# Altium schematic symbol library PJ_GRA_F.SchLib: 23 symbols
Pins are listed as number, name and electrical type; pins without a type are passive.

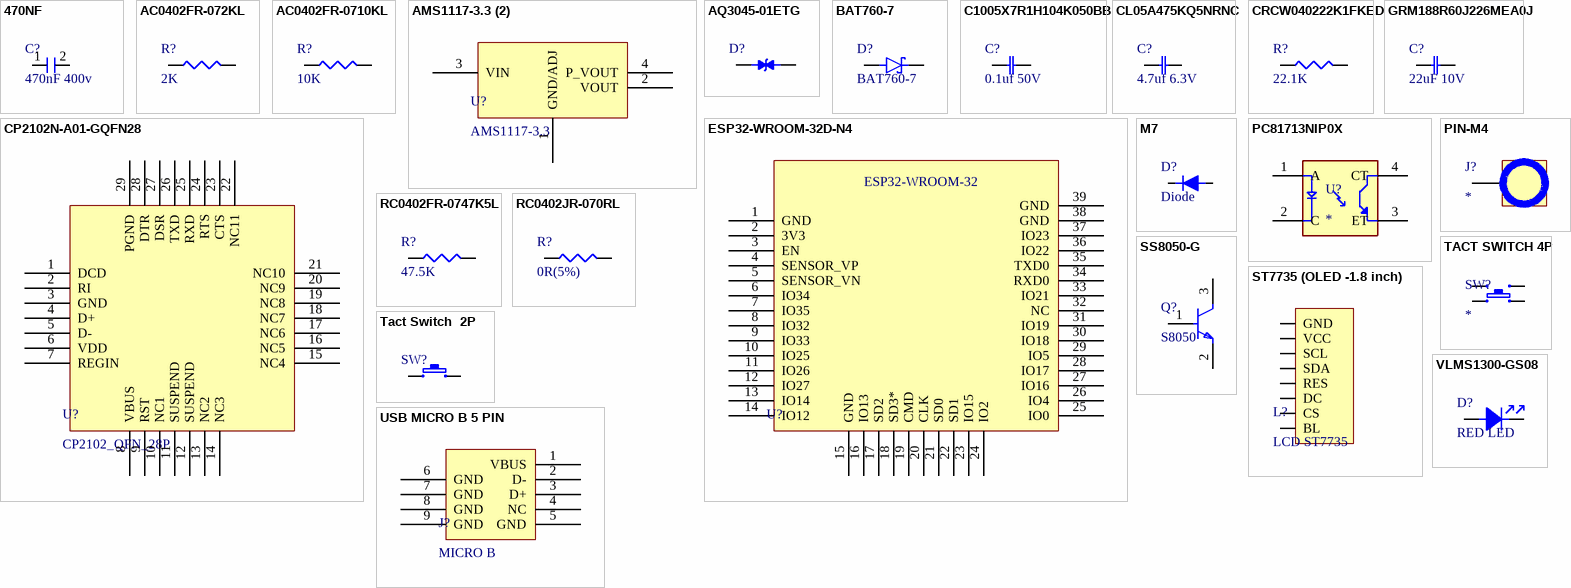
[diagram p0: symbols 470NF to VLMS1300-GS08]

## 470NF
designator C?, comment 470nF 400v
CAP 470nF 400V TH; MP: ECQE4474RJT; Price: None; Availability: Unavailable; Package: None; Value: *
footprint CAPRR750W80L1900T780H2200
pins: 1, 2

## AC0402FR-072KL
designator R?, comment 2K
RES SMD 2K OHM 1% 1/16W 0402; Manufacturer: Yageo; Manufacturer Part Number: AC0402FR-072KL; Power Rating: 62.5mW; Resistance: 2kR; Voltage Rating: 50V; Max Power Dissipation: 63mW; Temperature Coefficient: 100ppm/°C; Supplier 1: Avnet; RoHS: Yes; Category: Chip SMD Resistors; Stock 1: 10000; Pricing 1: 10000=0.00115 (USD); Case/Package: 0402; Case Code (Imperial): 0402; Case Code (Metric): 1005; Weight: 2.3E-05oz; Size Code: 0402; Min Operating Temperature: -55°C; Max Operating Temperature: 155°C; Tolerance: 1%; Packaging: Tape and Reel; Number of Terminations: 2; Termination: SMD/SMT; Features: Moisture Resistant,Automotive AEC-Q200; Series: AC; Length: 0.039inch; Width: 0.5mm; Height: 0.015inch; Lead Free: Lead Free; RoHS Compliant: Yes; ComponentLink1URL: https://datasheet.ciiva.com/12576/pyu-ac-51-rohs-l-2-12576349.pdf?src-supplier=Mouser; ComponentLink1Description: https://datasheet.ciiva.com/12576/pyu-ac-51-rohs-l-2-12576349.pdf?src-supplier=Mouser; LCSC part number: C144770
footprint FP-AC0402-IPC_A
pins: 1, 2

## AC0402FR-0710KL
designator R?, comment 10K
RES SMD 10K OHM 1% 1/16W 0402; Manufacturer: Yageo; Manufacturer Part Number: AC0402FR-0710KL; Resistance: 10kR; Power Rating: 62.5mW; Voltage Rating: 50V; Temperature Coefficient: 100ppm/°C; Max Power Dissipation: 63mW; Supplier 1: Digikey; RoHS: Yes; Category: Chip SMD Resistors; Stock 1: 1860000; Pricing 1: 10000=0.00343, 20000=0.00304, 30000=0.00284, 50000=0.00263, 100000=0.00237 (USD); Case/Package: 0402; Case Code (Imperial): 0402; Case Code (Metric): 1005; Size Code: 0402; Min Operating Temperature: -55°C; Max Operating Temperature: 155°C; Tolerance: 1%; Packaging: Tape and Reel; Termination: SMD/SMT; Number of Terminations: 2; Features: Moisture Resistant,Automotive AEC-Q200; Series: AC; Length: 0.039inch; Width: 0.02inch; Height: 0.015inch; Lead Free: Lead Free; RoHS Compliant: Yes; ComponentLink1URL: https://datasheet.ciiva.com/12656/pyu-ac-51-rohs-l-2-12656634.pdf?src-supplier=Mouser; ComponentLink1Description: https://datasheet.ciiva.com/12656/pyu-ac-51-rohs-l-2-12656634.pdf?src-supplier=Mouser; LCSC part number: C144807
footprint FP-AC0402-IPC_A
pins: 1, 2

## AMS1117-3.3 (2)
designator U?, comment AMS1117-3.3
IC Ldo Reg 3.3V 1A SOT223; Manufacturer: Revvo; Supplier 1: Digikey; Manufacturer Part Number: AMS1117-3.3; RoHS: No; Pricing 1: 1=0.43, 10=0.349, 25=0.3196, 100=0.2379, 250=0.2156, 500=0.17844, 1000=0.13382 (USD); LCSC part number: C347222
footprint FP-AMS1117-IPC_A
pins: 1 GND/ADJ, 2 VOUT, 3 VIN, 4 P_VOUT

## AQ3045-01ETG
designator D?, comment DIODE  (value not drawn)
TVS DIODE 5.3VWM 12VC SOD882; Manufacturer: Littelfuse; Manufacturer Part Number: AQ3045-01ETG; Number of Bidirectional Channels: 1; Reverse Standoff Voltage: 5.3V; Min Breakdown Voltage: 6.8V; Peak Pulse Current: 3A; Peak Pulse Power: 40W; Power Line Protection: No; Diode Type: ZENER; Leakage Current: 100nA; Number of Channels: 1NUMBER; Supplier 1: Digikey; RoHS: Yes; Category: TVS Diodes; Stock 1: 15483; Pricing 1: 1=0.5, 10=0.391, 100=0.2344, 500=0.217, 1000=0.14756, 2000=0.13585, 5000=0.1302 (USD); Mount: Surface Mount; Min Operating Temperature: -55°C; Max Operating Temperature: 150°C; Packaging: Cut Tape; Series: Automotive, AEC-Q101, AQ3045, SPA®; Operating Supply Voltage: 5.3V; RoHS Compliant: Yes; ComponentLink1URL: https://www.littelfuse.com/~/media/electronics/datasheets/tvs_diode_arrays/littelfuse_tvs_diode_array_aq3045_datasheet.pdf.pdf?src-supplier=Digikey; ComponentLink1Description: https://www.littelfuse.com/~/media/electronics/datasheets/tvs_diode_arrays/littelfuse_tvs_diode_array_aq3045_datasheet.pdf.pdf?src-supplier=Digikey; ComponentLink2URL: http://www.littelfuse.com/~/media/electronics/datasheets/tvs_diode_arrays/littelfuse_tvs_diode_array_aq3045_datasheet.pdf.pdf?src-supplier=Digikey; ComponentLink2Description: http://www.littelfuse.com/~/media/electronics/datasheets/tvs_diode_arrays/littelfuse_tvs_diode_array_aq3045_datasheet.pdf.pdf?src-supplier=Digikey; LCSC part number: C3710326
footprint TVS_LESD5D5.0CT1G
pins: 1, 2

## BAT760-7
designator D?
Schottky Diode,Vrrm=30V, Vr=21V, I=1A, IFSM=5.5A; Manufacturer: Diodes; Supplier 1: Avnet; Manufacturer Part Number: BAT760-7; RoHS: Yes; Category: Rectifier Diodes; Stock 1: 36000; Pricing 1: 3000=0.05096 (USD); ComponentLink1URL: https://datasheet.ciiva.com/8301/ds30498-8301400.pdf?src-supplier=Avnet; ComponentLink1Description: https://datasheet.ciiva.com/8301/ds30498-8301400.pdf?src-supplier=Avnet; ComponentLink2URL: https://datasheet.ciiva.com/4715/ds30498-63155-4715521.pdf?src-supplier=Mouser; ComponentLink2Description: https://datasheet.ciiva.com/4715/ds30498-63155-4715521.pdf?src-supplier=Mouser; ComponentLink3URL: https://datasheet.ciiva.com/1178/ds30498-1178033.pdf?src-supplier=Element14; ComponentLink3Description: https://datasheet.ciiva.com/1178/ds30498-1178033.pdf?src-supplier=Element14; ComponentLink4URL: https://datasheet.ciiva.com/22695/1670989-22695799.pdf?src-supplier=Element14; ComponentLink4Description: https://datasheet.ciiva.com/22695/1670989-22695799.pdf?src-supplier=Element14; ComponentLink5URL: https://datasheet.ciiva.com/914/ds30498-914551.pdf?src-supplier=Digikey; ComponentLink5Description: https://datasheet.ciiva.com/914/ds30498-914551.pdf?src-supplier=Digikey; ComponentLink6URL: https://datasheet.ciiva.com/914/ds30498-914552.pdf?src-supplier=Digikey; ComponentLink6Description: https://datasheet.ciiva.com/914/ds30498-914552.pdf?src-supplier=Digikey; ComponentLink7URL: https://datasheet.ciiva.com/914/ds30498-914553.pdf?src-supplier=Digikey; ComponentLink7Description: https://datasheet.ciiva.com/914/ds30498-914553.pdf?src-supplier=Digikey; LCSC part number: C124187
footprint SOD2513X120N
pins: A, C K

## C1005X7R1H104K050BB
designator C?, comment 0.1uf 50V
CAP CER 0.1UF 50V X7R 0402; Manufacturer: TDK; Manufacturer Part Number: C1005X7R1H104K050BB; Material: 4241ConductorMaterial; Capacitance: 100nF; Tolerance: 10%; Supplier 1: Digikey; RoHS: Yes; Category: Ceramic Capacitors; Stock 1: 4299684; Pricing 1: 1=0.1, 10=0.053, 50=0.0302, 100=0.0235, 500=0.01766, 1000=0.01388, 2500=0.01262, 5000=0.01161 (USD); Mount: Surface Mount; Case/Package: 0402; Number of Pins: 2NUMBER; Case Code (Imperial): 0402; Case Code (Metric): 1005; Min Operating Temperature: -55°C; Max Operating Temperature: 125°C; Package Quantity: 1; Voltage Rating: 50V; Packaging: Tape and Reel; Dielectric: X7R; Voltage: 50V; Series: C; Construction: Flat; Length: 1mm; Width: 0.02inch; Height: 0.5mm; Thickness: 0.022inch; Depth: 0.5mm; Radiation Hardening: No; RoHS Compliant: Yes; Reach SVHC Compliant: Unknown; Lead Free: 5697LeadFree; ComponentLink1URL: https://datasheet.ciiva.com/26285/2983c1005x7r1h104k050bb-26285417.pdf?src-supplier=Onlinecomponents.com; ComponentLink1Description: https://datasheet.ciiva.com/26285/2983c1005x7r1h104k050bb-26285417.pdf?src-supplier=Onlinecomponents.com; ComponentLink2URL: https://datasheet.ciiva.com/16427/c1005x7r1h104k050bb-16427685.pdf?src-supplier=Future+Electronics; ComponentLink2Description: https://datasheet.ciiva.com/16427/c1005x7r1h104k050bb-16427685.pdf?src-supplier=Future+Electronics; ComponentLink3URL: https://datasheet.ciiva.com/22725/1913358-22725482.pdf?src-supplier=Element14; ComponentLink3Description: https://datasheet.ciiva.com/22725/1913358-22725482.pdf?src-supplier=Element14; ComponentLink4URL: https://datasheet.ciiva.com/22725/1913358-22725480.pdf?src-supplier=Element14; ComponentLink4Description: https://datasheet.ciiva.com/22725/1913358-22725480.pdf?src-supplier=Element14; ComponentLink5URL: https://datasheet.ciiva.com/6292/tdkmlcccaprange-6292410.pdf?src-supplier=Digikey; ComponentLink5Description: https://datasheet.ciiva.com/6292/tdkmlcccaprange-6292410.pdf?src-supplier=Digikey; LCSC part number: C2181015
footprint FP-C1005-050-0_05-IPC_A (CAP 0402)
pins: 1, 2

## CL05A475KQ5NRNC
designator C?, comment 4.7uf 6.3V
CAP CER 4.7UF 6.3V X5R 0402; Manufacturer: Samsung; Manufacturer Part Number: CL05A475KQ5NRNC; Material: 4241ConductorMaterial; Tolerance: 10%; Supplier 1: Avnet; RoHS: Yes; Category: Ceramic Capacitors; Stock 1: 2440000; Pricing 1: 10000=0.00979 (USD); Mount: Surface Mount; Case/Package: 0402; Case Code (Metric): 1005; Case Code (Imperial): 0402; Min Operating Temperature: -55°C; Max Operating Temperature: 85°C; Package Quantity: 1; Packaging: Tape and Reel; Capacitance: 4.7uF; Voltage Rating: 6.3V; Dielectric: X5R; Series: CL; Construction: Flat; Length: 1mm; Width: 0.02inch; Height: 0.5mm; Thickness: 0.022inch; Depth: 0.5mm; Radiation Hardening: No; Lead Free: Lead Free; RoHS Compliant: Yes; ComponentLink1URL: https://datasheet.ciiva.com/25793/cl05a475kq5nrnc-25793634.pdf?src-supplier=Digikey; ComponentLink1Description: https://datasheet.ciiva.com/25793/cl05a475kq5nrnc-25793634.pdf?src-supplier=Digikey; ComponentLink2URL: https://datasheet.ciiva.com/26838/getdatasheetpartid-353228-26838196.pdf?src-supplier=Verical; ComponentLink2Description: https://datasheet.ciiva.com/26838/getdatasheetpartid-353228-26838196.pdf?src-supplier=Verical; LCSC part number: C2932473
footprint FP-C1005-050-0_05-IPC_A (CAP 0402)
pins: 1, 2

## CP2102N-A01-GQFN28
designator U?, comment CP2102_QFN_28P
USB-to-UART,USB2.0 full speed, data rate up to 3M baud; LCSC part number: C105167
footprint FP-CP2102N-A01-GQFN28-IPC_A - duplicate
pins: 1 DCD, 2 RI, 3 GND, 4 D+, 5 D-, 6 VDD, 7 REGIN, 8 VBUS, 9 RST, 10 NC1, 11 SUSPEND, 12 SUSPEND, 13 NC2, 14 NC3, 15 NC4, 16 NC5, 17 NC6, 18 NC7, 19 NC8, 20 NC9, 21 NC10, 22 NC11, 23 CTS, 24 RTS, 25 RXD, 26 TXD, 27 DSR, 28 DTR, 29 PGND

## CRCW040222K1FKED
designator R?, comment 22.1K
RES 22.1K OHM 1% 1/16W 0402; Manufacturer: Vishay; Manufacturer Part Number: CRCW040222K1FKED; Resistance: 22.1kR; Temperature Coefficient: 100ppm/°C; Max Power Dissipation: 63mW; Voltage Rating: 50V; Supplier 1: Avnet; RoHS: Yes; Category: Chip SMD Resistors; Stock 1: 290000; Pricing 1: 10000=0.00278, 20000=0.00269, 40000=0.0026, 60000=0.00251, 80000=0.00241, 100000=0.0023, 1000000=0.00219 (USD); Case/Package: 0402; Number of Pins: 2; Case Code (Imperial): 0402; Case Code (Metric): 1005; Weight: 2.3E-05oz; Contact Plating: Tin; Min Operating Temperature: -55°C; Max Operating Temperature: 155°C; Tolerance: 1%; Packaging: Tape and Reel; Number of Terminations: 2; Series: CRCW; Power Rating: 63mW; Package Quantity: 10000; Resistor Type: Thick Film; Termination: SMD/SMT; Voltage Rating (DC): 50V; Working Voltage: 50V; Features: Automotive AEC-Q200; Resistance Tolerance: 1%; Construction: Rectangular; Technology: THICK FILM; Length: 1mm; Width: 0.5mm; Height: 0.35mm; Depth: 0.5mm; Ratings: AEC-Q200; Lead Free: Lead Free; RoHS Compliant: Yes; Military Standard: Not; Reach SVHC Compliant: Unknown; ComponentLink1URL: https://datasheet.ciiva.com/11810/0900766b80d98824-11810184.pdf?src-supplier=Rs; ComponentLink1Description: https://datasheet.ciiva.com/11810/0900766b80d98824-11810184.pdf?src-supplier=Rs; ComponentLink2URL: https://datasheet.ciiva.com/7673/1697337-7673245.pdf?src-supplier=Element14; ComponentLink2Description: https://datasheet.ciiva.com/7673/1697337-7673245.pdf?src-supplier=Element14; ComponentLink3URL: https://datasheet.ciiva.com/7673/1697337-7673445.pdf?src-supplier=Element14; ComponentLink3Description: https://datasheet.ciiva.com/7673/1697337-7673445.pdf?src-supplier=Element14; ComponentLink4URL: https://datasheet.ciiva.com/3256/dcrcwe3-3256246.pdf?src-supplier=Avnet; ComponentLink4Description: https://datasheet.ciiva.com/3256/dcrcwe3-3256246.pdf?src-supplier=Avnet; ComponentLink5URL: https://datasheet.ciiva.com/3256/dcrcwe3-3256247.pdf?src-supplier=Avnet; ComponentLink5Description: https://datasheet.ciiva.com/3256/dcrcwe3-3256247.pdf?src-supplier=Avnet; ComponentLink6URL: https://datasheet.ciiva.com/22871/70201119-22871080.pdf?src-supplier=Allied+Electronics; ComponentLink6Description: https://datasheet.ciiva.com/22871/70201119-22871080.pdf?src-supplier=Allied+Electronics; ComponentLink7URL: https://datasheet.ciiva.com/16208/dcrcwe3-16208744.pdf?src-supplier=Future+Electronics; ComponentLink7Description: https://datasheet.ciiva.com/16208/dcrcwe3-16208744.pdf?src-supplier=Future+Electronics; ComponentLink8URL: https://datasheet.ciiva.com/16771/70201119-16771838.pdf?src-supplier=Allied+Electronics; ComponentLink8Description: https://datasheet.ciiva.com/16771/70201119-16771838.pdf?src-supplier=Allied+Electronics; LCSC part number: C3957064
footprint FP-AC0402-IPC_A
pins: 1, 2

## ESP32-WROOM-32D-N4
designator U?  (value not drawn)
Wi-Fi/BT BLE Module ESP32-D0WD, SPI Flash, UART, PCB antenna; Manufacturer: Espressif Systems; Supplier 1: Digikey; Manufacturer Part Number: ESP32-WROOM-32D-N4; RoHS: No; Category: LDO; Pricing 1: 6500=3.8 (USD); ComponentLink1URL: https://datasheet.octopart.com/ESP32-WROOM-32D-N4-Espressif-Systems-datasheet-125773146.pdf?src-supplier=TME; ComponentLink1Description: https://datasheet.octopart.com/ESP32-WROOM-32D-N4-Espressif-Systems-datasheet-125773146.pdf?src-supplier=TME; ComponentLink2URL: https://datasheet.octopart.com/ESP32-WROOM-32D-N4-Espressif-Systems-datasheet-152560788.pdf?src-supplier=SOS+electronic; ComponentLink2Description: https://datasheet.octopart.com/ESP32-WROOM-32D-N4-Espressif-Systems-datasheet-152560788.pdf?src-supplier=SOS+electronic; LCSC part number: C473012; Supplier Part Number 1: 1965-ESP32-WROOM-32D-N4TR-ND
footprint FP-ESP32-WROOM-32D_M113DH-0
pins: 1 GND "Ground", 2 3V3 "Power supply", 3 EN "Module-enable signal. Active high.", 4 SENSOR_VP "GPIO36, ADC1_CH0, RTC_GPIO0", 5 SENSOR_VN "GPIO39, ADC1_CH3, RTC_GPIO3", 6 IO34 "GPIO34, ADC1_CH6, RTC_GPIO4", 7 IO35 "GPIO35, ADC1_CH7, RTC_GPIO5", 8 IO32 "GPIO32, XTAL_32K_P, ADC1_CH4, TOUCH9, RTC_GPIO9", 9 IO33 "GPIO33, XTAL_32K_N, ADC1_CH5, TOUCH8, RTC_GPIO8", 10 IO25 "GPIO25, DAC_1, ADC2_CH8, RTC_GPIO6, EMAC_RXD0", 11 IO26 "GPIO26, DAC_2, ADC2_CH9, RTC_GPIO7, EMAC_RXD1", 12 IO27 "GPIO27, ADC2_CH7, TOUCH7, RTC_GPIO17, EMAC_RX_DV", 13 IO14 "GPIO14, ADC2_CH6, TOUCH6, RTC_GPIO16, MTMS, HSPI_CLK, HS2_CLK, SD_CLK, EMAC_TXD2", 14 IO12 "GPIO12, ADC2_CH5, TOUCH5, RTC_GPIO15, MTDI, HSPIQ, HS2_DATA2, SD_DATA2, EMAC_TXD3", 15 GND "Ground", 16 IO13 "GPIO13, ADC2_CH4, TOUCH4, RTC_GPIO14, MTCK, HSPI_D, HS2_DATA3, SD_DATA3, EMAC_RX_ER", 17 SD2 "GPIO9, SD_DATA2, SPIHD, HS1_DATA2, U1RXD", 18 SD3* "GPIO10, SD_DATA3, SPIWP, HS1_DATA3, U1TXD", 19 CMD "GPIO11, SD_CMD, SPICS0, HS1_CMD, U1RTS", 20 CLK "GPIO6, SD_CLK, SPICLK, HS1_CLK, U1CTS", 21 SD0 "GPIO7, SD_DATA0, SPIQ, HS1_DATA0, U2RTS", 22 SD1 "GPIO8, SD_DATA1, SPID, HS1_DATA1, U2CTS", 23 IO15 "GPIO15, ADC2_CH3, TOUCH3, MTDO, HSPICS0, RTC_GPIO13, HS2_CMD, SD_CMD, EMAC_RXD3", 24 IO2 "GPIO2, ADC2_CH2, TOUCH2, RTC_GPIO12, HSPIW, HS2_DATA0, SD_DATA0", 25 IO0 "GPIO0, ADC2_CH1, TOUCH1, RTC_GPIO11, CLK_OUT1, EMAC_TX_CLK", 26 IO4 "GPIO4, ADC2_CH0, TOUCH0, RTC_GPIO10, HSPID, HS2_DATA1, SD_DATA1, EMAC_TX_ER", 27 IO16 "GPIO16, HS1_DATA4, U2RXD, EMAC_CLK_OUT", 28 IO17 "GPIO17, HS1_DATA5, U2TXD, EMAC_CLK_OUT_180", 29 IO5 "GPIO5, VSPIQ, HS1_DATA6, EMAC_RX_CLK", 30 IO18 "GPIO18, VSPI_CLK, HS1_DATA7", 31 IO19 "GPIO19, VSPIQ, U0CTS, EMAC_TXD0", 32 NC "-", 33 IO21 "GPIO21, VSPIHD, EMAC_TX_EN", 34 RXD0 "GPIO3, U0RXD, CLK_OUT2", 35 TXD0 "GPIO1, U0TXD, CLK_OUT3, EMAC_RXD2", 36 IO22 "GPIO22, VSPIWP, U0RTS, EMAC_TXD1", 37 IO23 "GPIO23, VSPI_D, HS1_STROBE", 38 GND "Ground", 39 GND "Ground"
text: ESP32-WROOM-32

## GRM188R60J226MEA0J
designator C?, comment 22uF 10V
CAP CER 22UF 6.3V X5R 0603; Manufacturer: Murata; Manufacturer Part Number: GRM188R60J226MEA0J; Material: Ceramic; Tolerance: 20%; Supplier 1: Digikey; RoHS: Yes; Category: Ceramic Capacitors; Stock 1: 990000; Pricing 1: 10000=0.0366, 20000=0.03467, 30000=0.03274, 50000=0.03082, 100000=0.026, 250000=0.02408 (USD); Mount: Surface Mount; Case/Package: 0603; Case Code (Metric): 1608; Case Code (Imperial): 0603; Weight: 0.000222oz; Min Operating Temperature: -55°C; Max Operating Temperature: 85°C; Package Quantity: 10000; Packaging: Tape and Reel; Capacitance: 22uF; Voltage Rating: 6.3V; Dielectric: X5R; Termination: SMD/SMT; Voltage Rating (DC): 6.3V; Series: GRM; Height: 1mm; Lead Free: Lead Free; RoHS Compliant: Yes; ComponentLink1URL: https://datasheet.ciiva.com/29541/partnumbering-e-01-29541598.pdf?src-supplier=Digikey; ComponentLink1Description: https://datasheet.ciiva.com/29541/partnumbering-e-01-29541598.pdf?src-supplier=Digikey; Supplier Part Number 1: 490-7612-2-ND; LCSC part number: C426040
footprint FP-GRM188-0_2-IPC_A (CAP 0603)
pins: 1, 2

## M7
designator D?, comment Diode
DO-214AC/SMA, 1000V, 1.00A; Manufacturer: Diotec; Manufacturer Part Number: M7; Supplier 1: Arrow Electronics; RoHS: Yes; Category: Rectifier Diodes; Stock 1: 202500; Pricing 1: 7500=0.0111, 15000=0.011, 37500=0.0109, 45000=0.0093, 52500=0.0092, 187500=0.008 (USD); ComponentLink1URL: https://datasheet.octopart.com/M7-Diotec-datasheet-113243034.pdf?src-supplier=TME; ComponentLink1Description: https://datasheet.octopart.com/M7-Diotec-datasheet-113243034.pdf?src-supplier=TME
footprint DO-214AC_SMA
pins: A, K

## PC81713NIP0X
designator U?
Optoisolator Transistor Output 5000Vrms 1 Channel 4-SMD; MP: PC81713NIP0X; MF: SHARP/Socle Technology; Purchase-URL: https://pricing.snapeda.com/search/part/PC81713NIP0X/?ref=eda; SnapEDA_Link: https://www.snapeda.com/parts/PC81713NIP0X/SHARP%252FSocle+Technology/view-part/?ref=snap; Package: SMD-4 SOCLE Technology; Availability: In Stock; Check_prices: https://www.snapeda.com/parts/PC81713NIP0X/SHARP%252FSocle+Technology/view-part/?ref=eda; Value: *; Price: None
footprint SOT254P1025X400-4N
pins: 1 A, 2 C, 3 ET, 4 CT

## PIN-M4
designator J?
footprint M4
pins: 1

## RC0402FR-0747K5L
designator R?, comment 47.5K
RES 47.5K OHM 1% 1/16W 0402; Manufacturer: Yageo; Manufacturer Part Number: RC0402FR-0747K5L; Resistance: 47.5kR; Power Rating: 62.5mW; Voltage Rating: 50V; Temperature Coefficient: 100ppm/°C; Max Power Dissipation: 63mW; Supplier 1: Arrow Electronics; RoHS: Yes; Category: Chip SMD Resistors; Stock 1: 930000; Pricing 1: 10000=0.0016 (USD); Case/Package: 0402; Case Code (Imperial): 0402; Case Code (Metric): 1005; Size Code: 0402; Min Operating Temperature: -55°C; Max Operating Temperature: 155°C; Tolerance: 1%; Packaging: Tape and Reel; Termination: SMD/SMT; Voltage Rating (DC): 50V; Features: Moisture Resistant; Series: RC; Number of Terminations: 2; Resistor Type: Thick Film; Resistance Tolerance: 1%; Lead Free: Lead Free; RoHS Compliant: Yes; Reach SVHC Compliant: No; ComponentLink1URL: https://datasheet.ciiva.com/12667/pyu-rc0402-51-rohs-l-6-r-12667103.pdf?src-supplier=Mouser; ComponentLink1Description: https://datasheet.ciiva.com/12667/pyu-rc0402-51-rohs-l-6-r-12667103.pdf?src-supplier=Mouser; LCSC part number: C137974
footprint FP-AC0402-IPC_A
pins: 1, 2

## RC0402JR-070RL
designator R?, comment 0R(5%)
GENERAL PURPOSE CHIP RESISTOR Metal Glaze/thick Film, 0.0625W, 0ohm, Surface Mount, 0402; Manufacturer: Yageo; Manufacturer Part Number: RC0402JR-070RL; Resistance: 0mR; Power Rating: 62.5mW; Voltage Rating: 50V; Max Power Dissipation: 63mW; Temperature Coefficient: 200ppm/°C; Supplier 1: Avnet; RoHS: Yes; Category: Chip SMD Resistors; Stock 1: 720000; Pricing 1: 10000=0.0008 (USD); Case/Package: 0402; Contact Plating: Tin,Matte; Case Code (Metric): 1005; Case Code (Imperial): 0402; Size Code: 0402; Min Operating Temperature: -55°C; Max Operating Temperature: 155°C; Tolerance: 5%; Packaging: Tape and Reel; Resistor Type: Thick Film; Package Quantity: 1; Number of Terminations: 2; Termination: SMD/SMT; Features: Moisture Resistant; Series: RC; Technology: THICK FILM; Resistance Tolerance: 5%; Construction: Rectangular; Length: 1mm; Width: 0.02inch; Height: 0.016inch; Depth: 0.5mm; Reach SVHC Compliant: Unknown; Lead Free: 5697LeadFree; Military Standard: Not; RoHS Compliant: Yes; LCSC part number: C60485
footprint FP-AC0402-IPC_A
pins: 1, 2

## SS8050-G
designator Q?, comment S8050
TRANS NPN 25V 1.5A SOT23-3; Manufacturer: Comchip; Manufacturer Part Number: SS8050-G; Max Power Dissipation: 300mW; Transition Frequency: 100MHz; Collector-emitter Voltage-Max: 400mV; Collector Base Voltage (VCBO): 40V; Collector Emitter Saturation Voltage: 500mV; Emitter Base Voltage (VEBO): 5V; hFE Min: 200; Number of Elements: 1; Supplier 1: Digikey; RoHS: Yes; Category: Transistors; Stock 1: 89520; Pricing 1: 1=0.29, 10=0.2, 100=0.0978, 500=0.08154, 1000=0.05666 (USD); Mount: Surface Mount; Case/Package: TO-236-3; Max Operating Temperature: 150°C; Packaging: Cut Tape; Max Collector Current: 1.5A; Collector Emitter Breakdown Voltage: 25V; Max Breakdown Voltage: 25V; Series: -; Power Dissipation: 300mW; Height: 1.15mm; RoHS Compliant: Yes; ComponentLink1URL: http://www.comchiptech.com/admin/files/product/SS8050-G RevA181526.pdf?src-supplier=Digikey; ComponentLink1Description: http://www.comchiptech.com/admin/files/product/SS8050-G RevA181526.pdf?src-supplier=Digikey; LCSC part number: C3199946
footprint FP-SS8050-G-IPC_C
pins: 1 B, 2 E, 3 C

## ST7735 (OLED -1.8 inch)
designator L?, comment LCD ST7735
32RGB x 162dot 262K Color with Frame Memory Single-Chip TFT Controller/Driver
footprint ST7735 (OLED -1.8 inch)
pins: 1 GND, 2 VCC, 3 SCL, 4 SDA, 5 RES, 6 DC, 7 CS, 8 BL

## TACT SWITCH 4P
designator SW?
12x12; MP: B3F-4055; Price: None; Availability: Unavailable; Value: *; Package: None
footprint SW_B3F-4055
pins: 1, 2, 3, 4

## Tact Switch  2P
designator SW?, comment Tact Switch  (value not drawn)
reset button, 2-pin, 3x4x2, SMT
footprint SKRK (SWITCH TACT)
pins: 1, 2

## USB MICRO B 5 PIN
designator J?, comment MICRO B
USB 2.0 1.8A 1 Surface Mount，Right Angle 5P Female -30℃~+80℃ Micro-B SMD USB Connectors ROHS; LCSC part number: C668587
footprint HRS_ZX62D-B-5P8
pins: 1 VBUS, 2 D-, 3 D+, 4 NC, 5 GND, 6 GND, 7 GND, 8 GND, 9 GND

## VLMS1300-GS08
designator D?, comment RED LED
LED RED 0603 SMD; Manufacturer: Vishay Semiconductors; Manufacturer Part Number: VLMS1300-GS08; Viewing Angle: 130°; Luminous Intensity: 54mcd; Forward Voltage: 2V; Wavelength: 631nm; Lens Style: Rectangular,Clear; Forward Current: 20mA; Power Rating: 75mW; Number of LEDs: 1; Supplier 1: Avnet; RoHS: Yes; Category: LEDs; Stock 1: 880; Pricing 1: 1=0.287, 25=0.232, 50=0.166 (USD); Mount: Surface Mount; Case/Package: 0603; Color: Red; Case Code (Metric): 1608; Case Code (Imperial): 0603; Min Operating Temperature: -35°C; Max Operating Temperature: 85°C; Package Quantity: 1; Packaging: Tape and Reel; Illumination Color: Red; Dominant Wavelength: 631nm; Test Current: 20mA; Series: CHipLED; Length: 1.6mm; Width: 0.8mm; Height: 0.8mm; Radiation Hardening: No; Lead Free: Lead Free; RoHS Compliant: Yes; Reach SVHC Compliant: Unknown; ComponentLink1URL: https://datasheet.ciiva.com/26322/vlmo1300-26322153.pdf?src-supplier=Element14; ComponentLink1Description: https://datasheet.ciiva.com/26322/vlmo1300-26322153.pdf?src-supplier=Element14; ComponentLink2URL: https://datasheet.ciiva.com/8028/vlmo1300-8028047.pdf?src-supplier=Element14; ComponentLink2Description: https://datasheet.ciiva.com/8028/vlmo1300-8028047.pdf?src-supplier=Element14; ComponentLink3URL: https://datasheet.ciiva.com/9333/vlmo1300-9333743.pdf?src-supplier=Avnet; ComponentLink3Description: https://datasheet.ciiva.com/9333/vlmo1300-9333743.pdf?src-supplier=Avnet; ComponentLink4URL: https://datasheet.ciiva.com/2114/vlmo1300-2114929.pdf?src-supplier=Digikey; ComponentLink4Description: https://datasheet.ciiva.com/2114/vlmo1300-2114929.pdf?src-supplier=Digikey; ComponentLink5URL: https://datasheet.ciiva.com/16510/vlmo1300-16510985.pdf?src-supplier=Future+Electronics; ComponentLink5Description: https://datasheet.ciiva.com/16510/vlmo1300-16510985.pdf?src-supplier=Future+Electronics; LCSC part number: C83242
footprint FP-6_541-5092_01-4-MFG
pins: 1, 2